# EAGLE library part SWITCH-2CH-6P (library Switch)
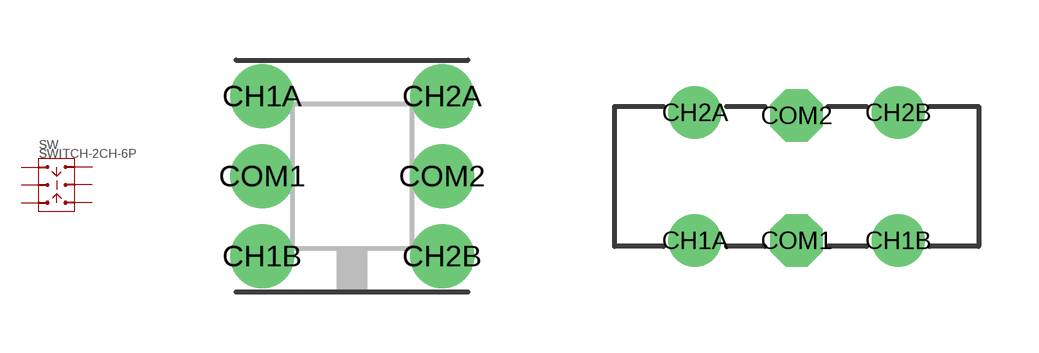
[diagram p0: symbol with the pads of SW6-2.0-5.8X5.8X5.0+2.3; footprints SW6-2.0-5.8X5.8X5.0+2.3, SW6-2.54-9.0X3.5X3.2+2.0MM]

Designator prefix SW

## SWITCH-2CH-6P  [SW6-2.0-5.8X5.8X5.0+2.3]
CH1A  CH1A
CH1B  CH1B
CH2A  CH2A
CH2B  CH2B
COM1  COM1
COM2  COM2

## SWITCH-2CH-6P-311010004  [SW6-2.54-9.0X3.5X3.2+2.0MM]
Pads as for SW6-2.0-5.8X5.8X5.0+2.3

## SWITCH-2CH-6P-311030004  [SW6-2.54-9.0X3.5X3.2MM-90D]
Pads as for SW6-2.0-5.8X5.8X5.0+2.3

## SWITCH-2CH-6P-311030005  [SW6-2.54-SMD-7.0X3.5X1.5MM]
Pads as for SW6-2.0-5.8X5.8X5.0+2.3

## Footprint SW6-2.0-5.8X5.8X5.0+2.3 (pad centres in mm)
drill 1 pad 1.6: CH1A -2.25,2; CH1B -2.25,-2; CH2A 2.25,2; CH2B 2.25,-2; COM1 -2.25,0; COM2 2.25,0

## Footprint SW6-2.54-9.0X3.5X3.2+2.0MM (pad centres in mm)
drill 0.813 pad 1.27: CH1A -2.54,-1.6; CH1B 2.54,-1.6; CH2A -2.54,1.6; CH2B 2.54,1.6
drill 0.813 pad 1.27 octagon: COM1 0,-1.6; COM2 0,1.524

## Footprint SW6-2.54-9.0X3.5X3.2MM-90D (pad centres in mm)
drill 0.813 pad 1.27: CH1A -2.54,-1.65; CH1B 2.54,-1.65; CH2A -2.54,1.65; CH2B 2.54,1.65
drill 0.813 pad 1.27 octagon: COM1 0,-1.65; COM2 0,1.65

## Footprint SW6-2.54-SMD-7.0X3.5X1.5MM (pad centres in mm)
smd 1.27 x 0.635: CH1A -3.175,2.54; CH1B -3.175,-2.54; CH2A 3.175,2.54; CH2B 3.175,-2.54; COM1 -3.175,0; COM2 3.175,0
hole 0.813 at 0,1.524
hole 0.813 at 0,-1.524